# Altium footprint library SN-GCJA5L.PcbLib: 1 footprints
Each footprint in its own frame and in the unit in brackets; x right, y up, seen from the top. Pads: shape width x height; smd on the part's side, far side on the other; paste and mask are expansions set on the pad; w line width, h text height; cw(c..) or ccw(c..) is an arc to the next point about the centre after c.
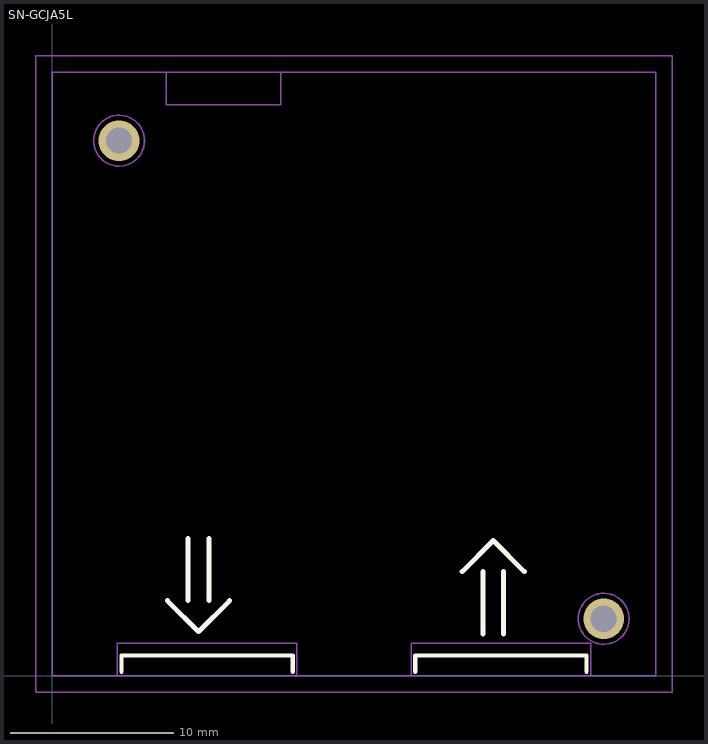
[diagram p0: the footprint, top view; thin cyan lines are the x and y axes]

## SN-GCJA5L [mm]
via 33.8,3.5 diameter 2.5 hole 1.6
via 4.1,32.8 diameter 2.5 hole 1.6
Top Overlay:
  lines w0.254: 4.25,0.25 4.25,1.25 14.75,1.25 14.75,0.25 ; 22.25,0.25 22.25,1.25 32.75,1.25 32.75,0.25
  lines w0.305: 7.065,4.61 8.97,2.705 10.875,4.61 ; 8.335,4.61 8.335,8.42 ; 9.605,4.61 9.605,8.42 ; 25.125,6.39 27.03,8.295 28.935,6.39 ; 26.395,2.58 26.395,6.39 ; 27.665,2.58 27.665,6.39
Top Assembly:
  circle w0.1: c4.1,32.8 r1.562
  circle w0.1: c33.8,3.5 r1.562
  lines w0.1: 4,0 4,2 15,2 15,0 ; 7,37 7,35 14,35 14,37 ; 22,0 22,2 33,2 33,0 ; 0,0 37,0 37,37 0,37 0,0
Top Courtyard:
  lines w0.1: -1,-1 -1,38 38,38 38,-1 -1,-1
3D body "SN-GCJA5L.step": height 12, standoff 0, extent 0,0 37,37